# Altium footprint library PCB - POWER INDUCTORS - WURTH WE-XHMI 1510.PcbLib: 1 footprints
Each footprint in its own frame and in the unit in brackets; x right, y up, seen from the top. Pads: shape width x height; smd on the part's side, far side on the other; paste and mask are expansions set on the pad; w line width, h text height; cw(c..) or ccw(c..) is an arc to the next point about the centre after c.
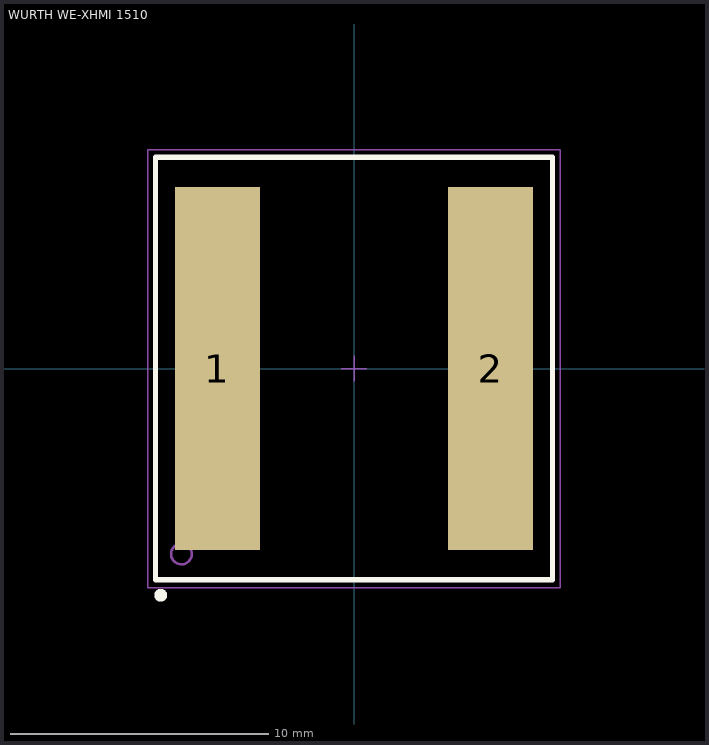
[diagram p0: the footprint, top view; thin cyan lines are the x and y axes]

## WURTH WE-XHMI 1510 [mm] "SMT Power Inductor, 2-Leads, body 16.4x15.4mm"
height 10
pads (2):
  rect 3.3x14.1 smd: 1(-5.3,0) 2(5.3,0)
Top Overlay:
  circle w0.25: c-7.5,-8.8 r0.125
  lines w0.2: -7.7,-8.2 -7.7,8.2 7.7,8.2 7.7,-8.2 -7.7,-8.2
Top Assembly:
  circle w0.1: c-6.7,-7.2 r0.4
  lines w0.05: -0.5,0 0.5,0 ; 0,-0.5 0,0.5
  lines w0.1: -7.7,-8.2 -7.7,8.2 7.7,8.2 7.7,-8.2 -7.7,-8.2
Top Component Outline:
  circle w0.1: c-6.7,-7.2 r0.4
  lines w0.1: -7.7,-8.2 7.7,-8.2 7.7,8.2 -7.7,8.2 -7.7,-8.2
Top Courtyard:
  lines w0.05: -8,-8.5 -8,8.5 8,8.5 8,-8.5 -8,-8.5
3D body "74439370xxx.stp": height 10, standoff 0, extent -7.7,-8.2 7.7,8.2